# EAGLE library part R-ARRAY (library Stanford Metro Mini)
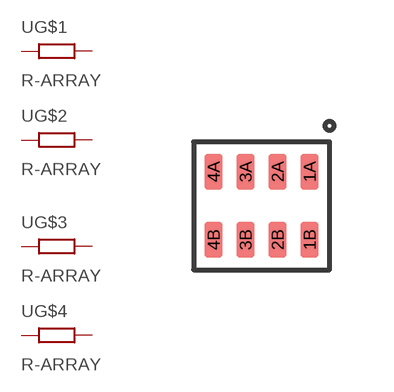
[diagram p4: symbol with the pads of R-ARRAY; footprint R-ARRAY]

Designator prefix -; gates G$1=R-ARRAY G$2=R-ARRAY G$3=R-ARRAY G$4=R-ARRAY

## R-ARRAY  [R-ARRAY]
1A  G$1:A
1B  G$1:B
2A  G$2:A
2B  G$2:B
3A  G$3:A
3B  G$3:B
4A  G$4:A
4B  G$4:B

## Footprint R-ARRAY (pad centres in mm)
smd 0.45 x 0.9: 1A 1.2,0.85; 1B 1.2,-0.85; 2A 0.4,0.85; 2B 0.4,-0.85; 3A -0.4,0.85; 3B -0.4,-0.85; 4A -1.2,0.85; 4B -1.2,-0.85